# Altium integrated library WD Communication Interface.IntLib: 6 symbols
Pins are listed as number, name and electrical type; pins without a type are passive.

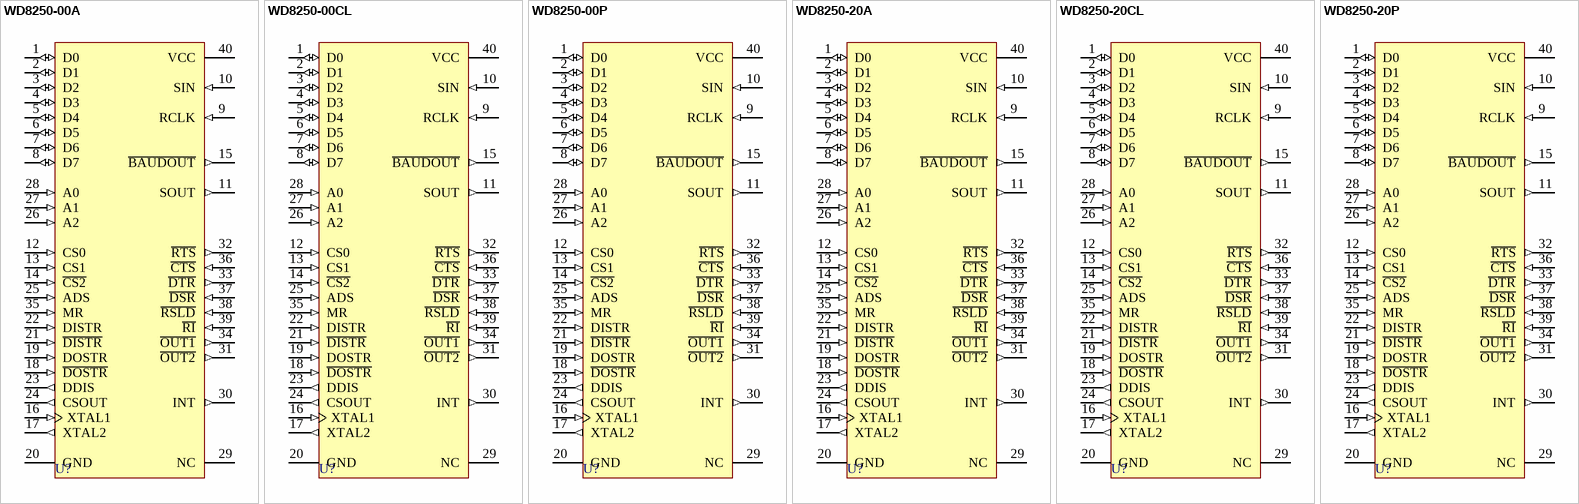
[diagram p0: symbols WD8250-00A to WD8250-20P]

## WD8250-00A
designator U?
Asynchronous Communication Element; PackageDocument: 1984; Published: 8-Jun-2000; LatestRevisionDate: 4-Mar-2005; LatestRevisionNote: Stylized 3D Model Added.; DatasheetDocument: 1984; PackageReference: A40; Publisher: Altium Limited; ComponentLink1Description: Manufacturer Link; ComponentLink1URL: http://www.wdc.com/
footprint A40 (DIP; 40 Leads; Row Spacing 15.24 mm; Pitch 2.54 mm)
3D model A40 (DIP; 40 Leads; Row Spacing 15.24 mm; Pitch 2.54 mm)
pins: 1 D0 (io), 2 D1 (io), 3 D2 (io), 4 D3 (io), 5 D4 (io), 6 D5 (io), 7 D6 (io), 8 D7 (io), 9 RCLK (in), 10 SIN (in), 11 SOUT (out), 12 CS0 (in), 13 CS1 (in), 14 ~{CS2} (in), 15 ~{BAUDOUT} (out), 16 XTAL1 (in), 17 XTAL2 (out), 18 ~{DOSTR} (in), 19 DOSTR (in), 20 GND (power), 21 ~{DISTR} (in), 22 DISTR (in), 23 DDIS (out), 24 CSOUT (out), 25 ADS (in), 26 A2 (in), 27 A1 (in), 28 A0 (in), 29 NC, 30 INT (out), 31 ~{OUT2} (out), 32 ~{RTS} (out), 33 ~{DTR} (out), 34 ~{OUT1} (out), 35 MR (in), 36 ~{CTS} (in), 37 ~{DSR} (in), 38 ~{RSLD} (in), 39 ~{RI} (in), 40 VCC (power)

## WD8250-00CL
designator U?
Asynchronous Communication Element; PackageDocument: 1984; Published: 8-Jun-2000; LatestRevisionDate: 4-Mar-2005; LatestRevisionNote: Stylized 3D Model Added.; DatasheetDocument: 1984; PackageReference: CL40; Publisher: Altium Limited; ComponentLink1Description: Manufacturer Link; ComponentLink1URL: http://www.wdc.com/
footprint CL40 (DIP; 40 Leads; Row Spacing 15.24 mm; Pitch 2.54 mm)
3D model P40 (DIP; 40 Leads; Row Spacing 15.24 mm; Pitch 2.54 mm)
pins: 1 D0 (io), 2 D1 (io), 3 D2 (io), 4 D3 (io), 5 D4 (io), 6 D5 (io), 7 D6 (io), 8 D7 (io), 9 RCLK (in), 10 SIN (in), 11 SOUT (out), 12 CS0 (in), 13 CS1 (in), 14 ~{CS2} (in), 15 ~{BAUDOUT} (out), 16 XTAL1 (in), 17 XTAL2 (out), 18 ~{DOSTR} (in), 19 DOSTR (in), 20 GND (power), 21 ~{DISTR} (in), 22 DISTR (in), 23 DDIS (out), 24 CSOUT (out), 25 ADS (in), 26 A2 (in), 27 A1 (in), 28 A0 (in), 29 NC, 30 INT (out), 31 ~{OUT2} (out), 32 ~{RTS} (out), 33 ~{DTR} (out), 34 ~{OUT1} (out), 35 MR (in), 36 ~{CTS} (in), 37 ~{DSR} (in), 38 ~{RSLD} (in), 39 ~{RI} (in), 40 VCC (power)

## WD8250-00P
designator U?
Asynchronous Communication Element; PackageDocument: 1984; Published: 8-Jun-2000; LatestRevisionDate: 4-Mar-2005; LatestRevisionNote: Stylized 3D Model Added.; DatasheetDocument: 1984; PackageReference: P40; Publisher: Altium Limited; ComponentLink1Description: Manufacturer Link; ComponentLink1URL: http://www.wdc.com/
footprint P40 (DIP; 40 Leads; Row Spacing 15.24 mm; Pitch 2.54 mm)
3D model P40 (DIP; 40 Leads; Row Spacing 15.24 mm; Pitch 2.54 mm)
pins: 1 D0 (io), 2 D1 (io), 3 D2 (io), 4 D3 (io), 5 D4 (io), 6 D5 (io), 7 D6 (io), 8 D7 (io), 9 RCLK (in), 10 SIN (in), 11 SOUT (out), 12 CS0 (in), 13 CS1 (in), 14 ~{CS2} (in), 15 ~{BAUDOUT} (out), 16 XTAL1 (in), 17 XTAL2 (out), 18 ~{DOSTR} (in), 19 DOSTR (in), 20 GND (power), 21 ~{DISTR} (in), 22 DISTR (in), 23 DDIS (out), 24 CSOUT (out), 25 ADS (in), 26 A2 (in), 27 A1 (in), 28 A0 (in), 29 NC, 30 INT (out), 31 ~{OUT2} (out), 32 ~{RTS} (out), 33 ~{DTR} (out), 34 ~{OUT1} (out), 35 MR (in), 36 ~{CTS} (in), 37 ~{DSR} (in), 38 ~{RSLD} (in), 39 ~{RI} (in), 40 VCC (power)

## WD8250-20A
designator U?
Asynchronous Communication Element; PackageDocument: 1984; Published: 8-Jun-2000; LatestRevisionDate: 4-Mar-2005; LatestRevisionNote: Stylized 3D Model Added.; DatasheetDocument: 1984; PackageReference: A40; Publisher: Altium Limited; ComponentLink1Description: Manufacturer Link; ComponentLink1URL: http://www.wdc.com/
footprint A40 (DIP; 40 Leads; Row Spacing 15.24 mm; Pitch 2.54 mm)
3D model A40 (DIP; 40 Leads; Row Spacing 15.24 mm; Pitch 2.54 mm)
pins: 1 D0 (io), 2 D1 (io), 3 D2 (io), 4 D3 (io), 5 D4 (io), 6 D5 (io), 7 D6 (io), 8 D7 (io), 9 RCLK (in), 10 SIN (in), 11 SOUT (out), 12 CS0 (in), 13 CS1 (in), 14 ~{CS2} (in), 15 ~{BAUDOUT} (out), 16 XTAL1 (in), 17 XTAL2 (out), 18 ~{DOSTR} (in), 19 DOSTR (in), 20 GND (power), 21 ~{DISTR} (in), 22 DISTR (in), 23 DDIS (out), 24 CSOUT (out), 25 ADS (in), 26 A2 (in), 27 A1 (in), 28 A0 (in), 29 NC, 30 INT (out), 31 ~{OUT2} (out), 32 ~{RTS} (out), 33 ~{DTR} (out), 34 ~{OUT1} (out), 35 MR (in), 36 ~{CTS} (in), 37 ~{DSR} (in), 38 ~{RSLD} (in), 39 ~{RI} (in), 40 VCC (power)

## WD8250-20CL
designator U?
Asynchronous Communication Element; PackageDocument: 1984; Published: 8-Jun-2000; LatestRevisionDate: 4-Mar-2005; LatestRevisionNote: Stylized 3D Model Added.; DatasheetDocument: 1984; PackageReference: CL40; Publisher: Altium Limited; ComponentLink1Description: Manufacturer Link; ComponentLink1URL: http://www.wdc.com/
footprint CL40 (DIP; 40 Leads; Row Spacing 15.24 mm; Pitch 2.54 mm)
3D model P40 (DIP; 40 Leads; Row Spacing 15.24 mm; Pitch 2.54 mm)
pins: 1 D0 (io), 2 D1 (io), 3 D2 (io), 4 D3 (io), 5 D4 (io), 6 D5 (io), 7 D6 (io), 8 D7 (io), 9 RCLK (in), 10 SIN (in), 11 SOUT (out), 12 CS0 (in), 13 CS1 (in), 14 ~{CS2} (in), 15 ~{BAUDOUT} (out), 16 XTAL1 (in), 17 XTAL2 (out), 18 ~{DOSTR} (in), 19 DOSTR (in), 20 GND (power), 21 ~{DISTR} (in), 22 DISTR (in), 23 DDIS (out), 24 CSOUT (out), 25 ADS (in), 26 A2 (in), 27 A1 (in), 28 A0 (in), 29 NC, 30 INT (out), 31 ~{OUT2} (out), 32 ~{RTS} (out), 33 ~{DTR} (out), 34 ~{OUT1} (out), 35 MR (in), 36 ~{CTS} (in), 37 ~{DSR} (in), 38 ~{RSLD} (in), 39 ~{RI} (in), 40 VCC (power)

## WD8250-20P
designator U?
Asynchronous Communication Element; PackageDocument: 1984; Published: 8-Jun-2000; LatestRevisionDate: 4-Mar-2005; LatestRevisionNote: Stylized 3D Model Added.; DatasheetDocument: 1984; PackageReference: P40; Publisher: Altium Limited; ComponentLink1Description: Manufacturer Link; ComponentLink1URL: http://www.wdc.com/
footprint P40 (DIP; 40 Leads; Row Spacing 15.24 mm; Pitch 2.54 mm)
3D model P40 (DIP; 40 Leads; Row Spacing 15.24 mm; Pitch 2.54 mm)
pins: 1 D0 (io), 2 D1 (io), 3 D2 (io), 4 D3 (io), 5 D4 (io), 6 D5 (io), 7 D6 (io), 8 D7 (io), 9 RCLK (in), 10 SIN (in), 11 SOUT (out), 12 CS0 (in), 13 CS1 (in), 14 ~{CS2} (in), 15 ~{BAUDOUT} (out), 16 XTAL1 (in), 17 XTAL2 (out), 18 ~{DOSTR} (in), 19 DOSTR (in), 20 GND (power), 21 ~{DISTR} (in), 22 DISTR (in), 23 DDIS (out), 24 CSOUT (out), 25 ADS (in), 26 A2 (in), 27 A1 (in), 28 A0 (in), 29 NC, 30 INT (out), 31 ~{OUT2} (out), 32 ~{RTS} (out), 33 ~{DTR} (out), 34 ~{OUT1} (out), 35 MR (in), 36 ~{CTS} (in), 37 ~{DSR} (in), 38 ~{RSLD} (in), 39 ~{RI} (in), 40 VCC (power)